# Altium schematic symbol library AD8429.SchLib: 1 symbol
Pins are listed as number, name and electrical type; pins without a type are passive.

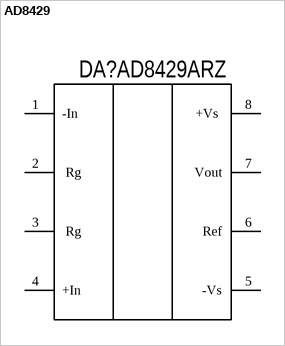
[diagram p0: symbol AD8429]

## AD8429
designator DA?  Model: AD8429ARZ  (hidden comment: *)
Low Noise Instrumentation Amplifier; Manufacture: Analog Devices; ComponentLink1Description: AD8429; ComponentLink1URL: https://www.analog.com/media/en/technical-documentation/data-sheets/AD8429.pdf; Case: SO-8 Narrow; Supplier 1: Arrow; Supplier Part Number 1: AD8429ARZ
footprint SO-8 Narrow
pins: 1 -In "Negative Input", 2  Rg "Rgain", 3  Rg "Rgain", 4 +In "Positive Input", 5 -Vs "Negative power supply", 6 Ref "Referens", 7 Vout "Output", 8 +Vs  "Positive power supply"